# EAGLE library part 691243300009 (library Wurth_Connectors_WR-TBL Rising Cage Clamp)
WR-TBL Serie 2433 - 3.81 mm Vertical Entry Modular w. Rising Cage Clamp KIND PROPERTIES Pitch 3.81 mm MATERIAL PROPERTIES Insulator Material PA6/66;​ PA66 Insulator Flammability Rating UL94 V-0 Insulator Color Green Contact Material Copper Alloy Contact Plating Nickel over Tin Terminal Screw Material Steel Terminal Screw Plating Zinc Wire Guard Material Copper Alloy GENERAL INFORMATION Operating Temperature -30 up to +120 °C Compliance Lead free / RoHS;​ ROHS & Reach ELECTRICAL PROPERTIES IR UL 10 A IR VDE 10 A Working Voltage [UL] 300 V (AC) Working Voltage [VDE] 130 V (AC) Withstanding Voltage [UL] 1600 V (AC) Withstanding Voltage [cULus] 1600 V (AC) Withstanding Voltage [VDE] 1250 V (AC) Contact Resistance [UL] 20 mΩ Contact Resistance [cULus] 20 mΩ Contact Resistance [VDE] 20 mΩ MECHANICAL PROPERTIES Wire Strip Length 6 (mm) Screw M2 CERTIFICATION cULus Approval E150931 UL Approval E150931 CAT. N°: CAP (3); E150931 CAT. N°: CPA (3) VDE Approval 40015434 VDE Approval 40015434 TYPE: CPA PACKAGING PROPERTIES Packaging Box <https://www.we-online.com/catalog/media/o60859v209%20Family_TBL_3_81_2433_VERTICAL_CABLE_ENTRY_W_RISING_CLAMP_6912433000XX.jpg> Details see: https://www.we-online.com/catalog/en/TBL_3_81_2433_VERTICAL_CABLE_ENTRY_W_RISING_CLAMP_6912433000XX/ Updated by Ella Wu 2019-11-21 2019(C) Wurth Elektronik
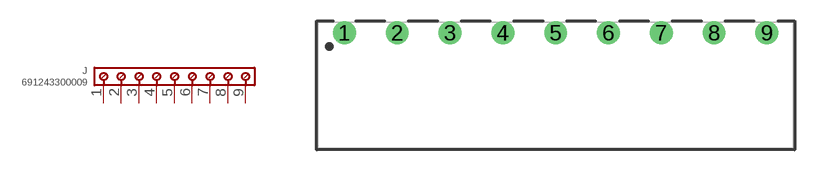
[diagram p34: symbol with the pads of 691243300009; footprint 691243300009]

Designator prefix J

## 691243300009 (DATASHEET-URL: https://www.we-online.com/redexpert/spec/691243300009?ae; IR-UL: 10A; IR-VDE: 10A; MOUNT: THT; PART-NUMBER: 691243300009; PINS: 9; PITCH: 3.81mm; TYPE: Vertical; WIRE: 30 to 16 (AWG) 0.05 to 1.31 (mm²); WORKING-VOLTAGE-UL: 300V (AC); WORKING-VOLTAGE-VDE: 130V (AC))  [691243300009]
1  1  pas
2  2  pas
3  3  pas
4  4  pas
5  5  pas
6  6  pas
7  7  pas
8  8  pas
9  9  pas

## Footprint 691243300009 (pad centres in mm)
WR-TBL Serie 2433 - 3.81 mm Vertical Entry Modular w. Rising Cage Clamp Max Height =7.3mm , Pitch 3.81mm , 9 Pins
drill 1.1: 1 -15.24,0; 2 -11.43,0; 3 -7.62,0; 4 -3.81,0; 5 0,0; 6 3.81,0; 7 7.62,0; 8 11.43,0; 9 15.24,0